# Altium footprint library Audio - Alarms Buzzers and Sirens.PcbLib: 5 footprints
Each footprint in its own frame and in the unit in brackets; x right, y up, seen from the top. Pads: shape width x height; smd on the part's side, far side on the other; paste and mask are expansions set on the pad; w line width, h text height; cw(c..) or ccw(c..) is an arc to the next point about the centre after c.
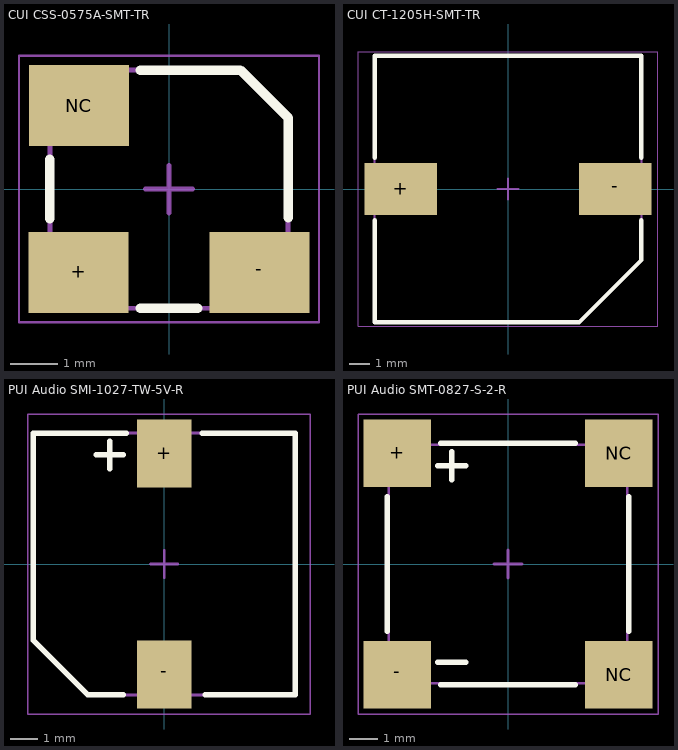
[diagram p0: the footprints below, top view; thin cyan lines are the x and y axes]

## CUI CSS-0575A-SMT-TR [mm] "Buzzer 5x5mm"
height 2
pads (3):
  rect 2.1x1.7 smd: +(-1.9,-1.75) -(1.9,-1.75) NC(-1.892,1.754)
Top Overlay:
  lines w0.2: -2.5,-0.625 -2.5,0.625 ; -0.6,-2.5 0.6,-2.5 ; -0.6,2.5 1.5,2.5 2.5,1.5 2.5,-0.6
Mechanical 13:
  lines w0.1: -2.5,-2.5 2.5,-2.5 2.5,1.5 1.5,2.5 -2.5,2.5 -2.5,-2.5
Mechanical 15:
  lines w0.05: -3.15,-2.8 3.15,-2.8 3.15,2.8 -3.15,2.8 -3.15,-2.8
  lines w0.1: -0.5,0 0.5,0 ; 0,-0.5 0,0.5
3D body "CUI - CSS-0575A-SMT.step": height 2, standoff 0, extent -2.5,-2.5 2.5,2.5

## CUI CT-1205H-SMT-TR [mm] "Buzzer 12.8x12.8mm"
height 10
pads (2):
  rect 3.5x2.5 smd: +(-5.15,0) -(5.15,0)
Top Overlay:
  lines w0.2: -6.4,-1.5 -6.4,-6.4 3.4,-6.4 6.4,-3.4 6.4,-1.5 ; -6.4,1.5 -6.4,6.4 6.4,6.4 6.4,1.5
Mechanical 13:
  lines w0.1: -6.4,-6.4 -6.4,6.4 6.4,6.4 6.4,-3.4 3.4,-6.4 -6.4,-6.4
Mechanical 15:
  lines w0.05: -7.2,-6.6 -7.2,6.6 7.2,6.6 7.2,-6.6 -7.2,-6.6
  lines w0.1: -0.5,0 0.5,0 ; 0,-0.5 0,0.5
3D body "CUI - CT-1205H-SMT-TR.step": height 10, standoff 0, extent -6.9,-6.4 6.9,6.4

## PCBComponent_1 [mm]

## PUI Audio SMI-1027-TW-5V-R [mm] "Buzzer 9.6x9.6mm"
height 5
pads (2):
  rect 2x2.5 smd: +(0,4.05) -(0,-4.05)
Top Overlay:
  lines w0.2: -2.5,4 -1.5,4 ; -2,3.5 -2,4.5 ; -1.5,-4.8 -2.8,-4.8 -4.8,-2.8 -4.8,4.8 -1.4,4.8 ; 1.4,4.8 4.8,4.8 4.8,-4.8 1.5,-4.8
Mechanical 13:
  lines w0.1: -4.8,-2.8 -2.8,-4.8 4.8,-4.8 4.8,4.8 -4.8,4.8 -4.8,-2.8
Mechanical 15:
  lines w0.05: -5,-5.5 -5,5.5 5.35,5.5 5.35,-5.5 -5,-5.5
  lines w0.1: -0.5,0 0.5,0 ; 0,-0.5 0,0.5
3D body "PUI Audio - SMI-1027-TW-5V-R.step": height 5, standoff 0, extent -4.8,-5 4.8,5

## PUI Audio SMT-0827-S-2-R [mm] "Buzzer 8.5x8.5mm"
height 4
pads (4):
  rect 2.4x2.4 smd: +(-3.95,3.95) -(-3.95,-3.95) NC(3.95,-3.95) NC(3.95,3.95)
Top Overlay:
  lines w0.2: -4.3,-2.4 -4.3,2.4 ; -2.5,-3.5 -1.5,-3.5 ; -2.5,3.5 -1.5,3.5 ; -2.4,-4.3 2.4,-4.3 ; -2.4,4.3 2.4,4.3 ; -2,3 -2,4 ; 4.3,-2.4 4.3,2.4
Mechanical 13:
  lines w0.1: -4.25,-4.25 -4.25,4.25 4.25,4.25 4.25,-4.25 -4.25,-4.25
Mechanical 15:
  lines w0.05: -5.35,-5.35 -5.35,5.35 5.35,5.35 5.35,-5.35 -5.35,-5.35
  lines w0.1: -0.5,0 0.5,0 ; 0,-0.5 0,0.5
3D body "PUI Audio - SMT-0827-S-2-R.step": height 4, standoff 0, extent -4.25,-4.25 4.251,4.25